# Altium schematic symbol library 焊盘.SchLib: 2 symbols
Pins are listed as number, name and electrical type; pins without a type are passive.

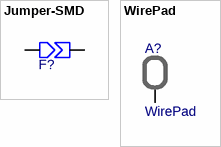
[diagram p0: symbols Jumper-SMD to WirePad]

## Jumper-SMD
designator F?, comment Jumper  (value not drawn)
表贴式跳线，兼容电阻封装
footprint Jumper-SMD-0402 (0402 表贴式跳线 无丝印)
footprint Jumper-SMD-0603 (0603 表贴式跳线 无丝印)
footprint Jumper-SMD-0603-S (0603 表贴式跳线 有丝印)
footprint Jumper-SMD-0805 (0805 表贴式跳线 无丝印)
footprint Jumper-SMD-0805-S (0805 表贴式跳线 有丝印)
pins: 1, 2

## WirePad
designator A?  (no BOM)
线缆焊盘
footprint WirePad-4x6 (焊线盘 表贴 4mm x 6mm)
footprint WirePad-4.5x7 (焊线盘 表贴 4.5mm x 7mm)
pins: 1